# Altium footprint library THD_MICRO_FIT.PcbLib: 1 footprints
Each footprint in its own frame and in the unit in brackets; x right, y up, seen from the top. Pads: shape width x height; smd on the part's side, far side on the other; paste and mask are expansions set on the pad; w line width, h text height; cw(c..) or ccw(c..) is an arc to the next point about the centre after c.
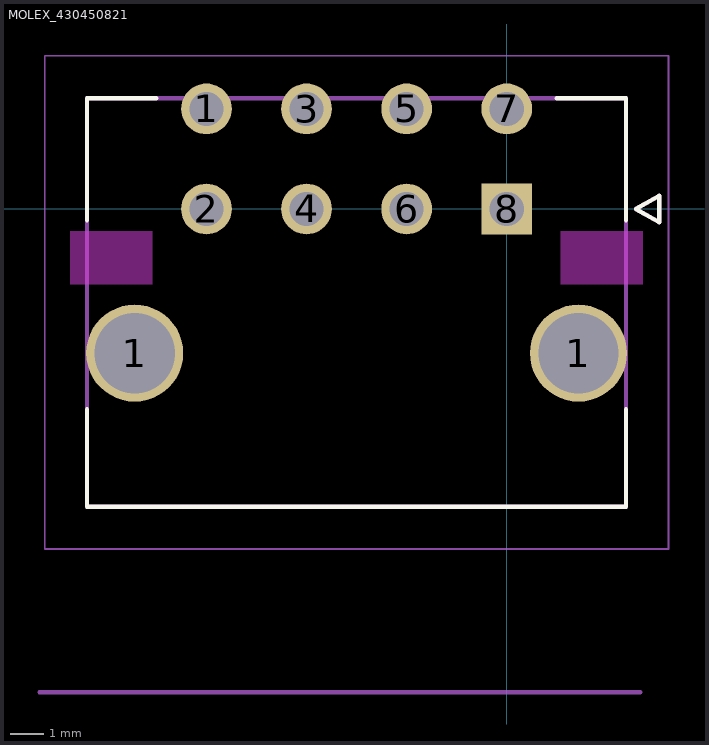
[diagram p0: the footprint, top view; thin cyan lines are the x and y axes]

## MOLEX_430450821 [mm]
height 8.77
pads (10):
  round 2.91 hole 2.41 mask+0.076: 1(-11.15,-4.32) 1(2.15,-4.32)
  round 1.52 hole 1.02 mask+0.076: 1(-9,3) 2(-9,0) 3(-6,3) 4(-6,0) 5(-3,3) 6(-3,0) 7(0,3)
  rect 1.52x1.52 / inner round 1.52 / far side rect 1.52x1.52 hole 1.02 mask+0.076: 8(0,0)
Top Overlay:
  lines w0.127: -12.575,-6 -12.575,-8.92 3.575,-8.92 3.575,-6 ; -12.575,-0.34 -12.575,3.32 -10.5,3.32 ; 1.5,3.32 3.575,3.32 3.575,-0.34 ; 3.87,0 4.57,0.4 4.57,-0.4 3.87,0
Top Solder:
  circle w1.531: c2.15,-4.32 r0.766
  circle w1.531: c-11.15,-4.32 r0.766
Keep-Out Layer:
  region: -10.625,-2.26 -13.075,-2.26 -13.075,-0.66 -10.625,-0.66
  region: 4.075,-2.26 1.625,-2.26 1.625,-0.66 4.075,-0.66
Mechanical 13:
  lines w0.127: -14,-14.48 4,-14.48 ; -12.575,-8.92 3.575,-8.92 3.575,3.32 -12.575,3.32 -12.575,-8.92 ; 3.87,0 4.57,0.4 4.57,-0.4 3.87,0
  text "PCB_EDGE" at 4,-14.48 h0.81
  text "MAX" at -11.23,-14.17 h1.02
Mechanical 15:
  lines w0.05: -13.845,-10.19 4.845,-10.19 4.845,4.59 -13.845,4.59 -13.845,-10.19
3D body "43045-0821--3DModel-STEP-56544.STEP": height 9.27, standoff -2.68, extent -12.625,-8.92 3.575,3.32